# EAGLE library part SW_DIP-6 (library ds_passive)
SMD Dip Switch 6 pol.
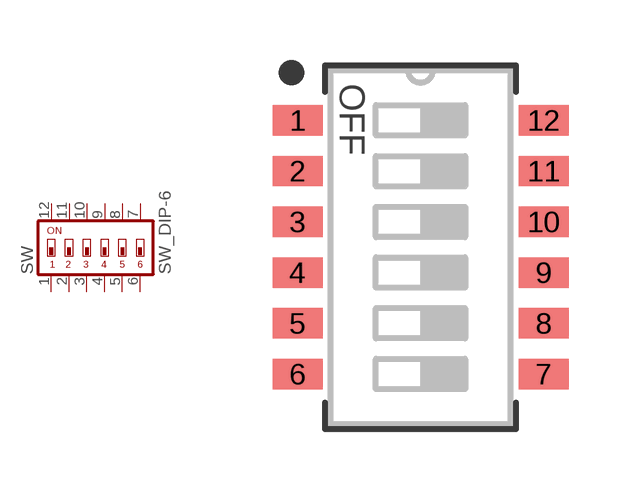
[diagram p3: symbol with the pads of DIPSW6; footprint DIPSW6]

Designator prefix SW

## SW_DIP-6 (DATASHEET: https://mm.digikey.com/Volume0/opasdata/d220001/medias/docus/412/Omron_Date_Code.pdf; DESCRIPTION: SWITCH SLIDE DIP SPST 0.025A 24V; LCSC_PART: C397289; MANUFACTURER: Omron Electronics Inc-EMC Div; MPN: A6H-6101; ROHS: YES; VALUE: A6H-6101)  [DIPSW6]
1  1  pas
2  2  pas
3  3  pas
4  4  pas
5  5  pas
6  6  pas
7  7  pas
8  8  pas
9  9  pas
10  10  pas
11  11  pas
12  12  pas

## Footprint DIPSW6 (pad centres in mm)
DIP SWITCH
smd 1.25 x 0.76: 1 -3.1,3.15; 2 -3.1,1.88; 3 -3.1,0.61; 4 -3.1,-0.66; 5 -3.1,-1.93; 6 -3.1,-3.2; 7 3.05,-3.2; 8 3.05,-1.93; 9 3.05,-0.66; 10 3.05,0.61; 11 3.05,1.88; 12 3.05,3.15